# Altium footprint library TQFP_64_PIC24.PcbLib: 1 footprints
Each footprint in its own frame and in the unit in brackets; x right, y up, seen from the top. Pads: shape width x height; smd on the part's side, far side on the other; paste and mask are expansions set on the pad; w line width, h text height; cw(c..) or ccw(c..) is an arc to the next point about the centre after c.
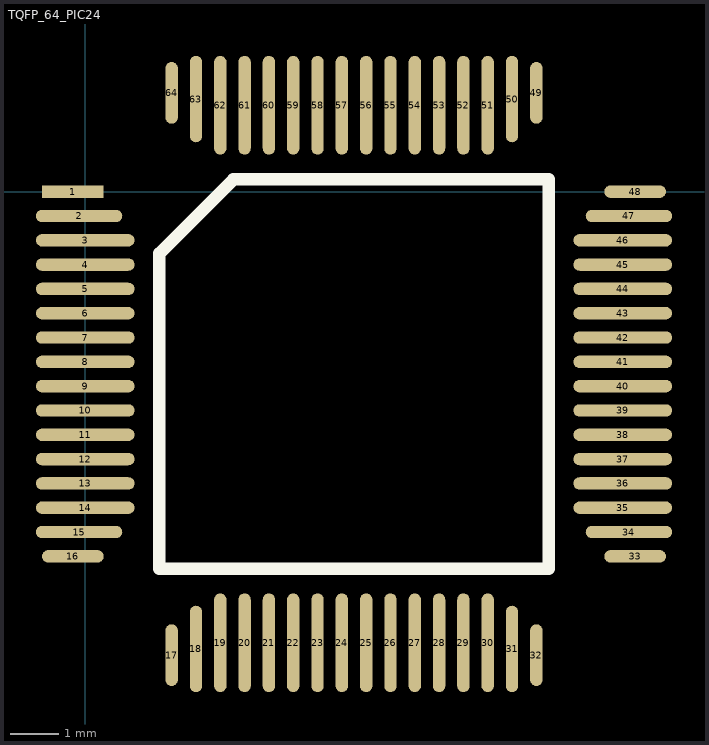
[diagram p0: the footprint, top view; thin cyan lines are the x and y axes]

## TQFP_64_PIC24 [mil]
pads (64):
  rect 50x10 smd: 1(-10,0)
  oval 70x10 smd: 2(-5,-19.68) 15(-5,-275.59) 34(440.27,-275.59) 47(440.27,-19.68)
  oval 80x10 smd: 3(0,-39.37) 4(0,-59.05) 5(0,-78.74) 6(0,-98.42) 7(0,-118.11) 8(0,-137.79) 9(0,-157.48) 10(0,-177.16) 11(0,-196.85) 12(0,-216.53) 13(0,-236.22) 14(0,-255.91) 35(435.27,-255.91) 36(435.27,-236.22) 37(435.27,-216.53) 38(435.27,-196.85) 39(435.27,-177.16) 40(435.27,-157.48) 41(435.27,-137.79) 42(435.27,-118.11) 43(435.27,-98.42) 44(435.27,-78.74) 45(435.27,-59.05) 46(435.27,-39.37)
  oval 50x10 smd: 16(-10,-295.27) 33(445.27,-295.27) 48(445.27,0)
  oval 10x50 smd: 17(70,-375.27) 32(365.27,-375.27) 49(365.27,80) 64(70,80)
  oval 10x70 smd: 18(89.69,-370.27) 31(345.59,-370.27) 50(345.59,75) 63(89.69,75)
  oval 10x80 smd: 19(109.37,-365.27) 20(129.06,-365.27) 21(148.74,-365.27) 22(168.43,-365.27) 23(188.11,-365.27) 24(207.79,-365.27) 25(227.48,-365.27) 26(247.16,-365.27) 27(266.85,-365.27) 28(286.54,-365.27) 29(306.22,-365.27) 30(325.9,-365.27) 51(325.9,70) 52(306.22,70) 53(286.54,70) 54(266.85,70) 55(247.16,70) 56(227.48,70) 57(207.79,70) 58(188.11,70) 59(168.43,70) 60(148.74,70) 61(129.06,70) 62(109.37,70)
Top Overlay:
  lines w10: 60,-305.27 60,-50 120,10 375.27,10 375.27,-305.27 60,-305.27